# EAGLE library part ADXRS652 (library inanna)
FRC ADXRS652 board
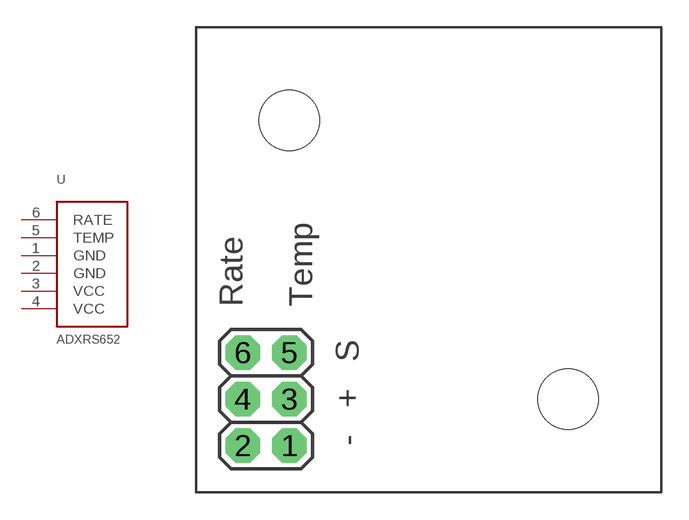
[diagram p4: symbol with the pads of ADXRS652; footprint ADXRS652]

Designator prefix -

## ADXRS652  [ADXRS652]
1  GND
2  GND
3  VCC
4  VCC
5  TEMP
6  RATE

## Footprint ADXRS652 (pad centres in mm)
FRC ADXRS652 board
drill 1.016 pad 1.88 octagon: 1 -7.62,-10.16; 2 -10.16,-10.16; 3 -7.62,-7.62; 4 -10.16,-7.62; 5 -7.62,-5.08; 6 -10.16,-5.08
hole 3.302 at -7.62,7.62
hole 3.302 at 7.62,-7.62